# Altium schematic symbol library 74LVC1G3157GS,132.Schlib: 1 symbol
Pins are listed as number, name and electrical type; pins without a type are passive.

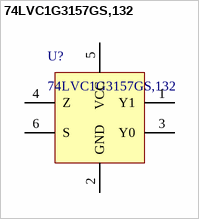
[diagram p0: symbol 74LVC1G3157GS,132]

## 74LVC1G3157GS,132
designator U?
1 Circuit IC Switch 2:1 10Ohm 6-XSON, SOT1202 (1x1)
pins: 1 Y1, 2 GND, 3 Y0, 4 Z, 5 VCC, 6 S